# Altium schematic symbol library tp4056.SchLib: 1 symbol
Pins are listed as number, name and electrical type; pins without a type are passive.

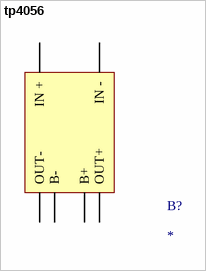
[diagram p0: symbol tp4056]

## tp4056
designator B?
footprint tp4056
pins: 0 IN +, 1 IN -, 2 OUT-, 3 B-, 4 B+, 5 OUT+